# Altium schematic symbol library [Q] Полевые транзисторы.SchLib: 2 symbols
Pins are listed as number, name and electrical type; pins without a type are passive.

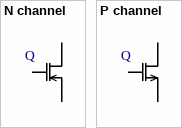
[diagram p0: symbols N channel to P channel]

## N channel
designator Q
pins: 1, 2, 3

## P channel
designator Q
pins: 1, 2, 3